# Altium footprint library TQFPC-44.PcbLib: 1 footprints
Each footprint in its own frame and in the unit in brackets; x right, y up, seen from the top. Pads: shape width x height; smd on the part's side, far side on the other; paste and mask are expansions set on the pad; w line width, h text height; cw(c..) or ccw(c..) is an arc to the next point about the centre after c.
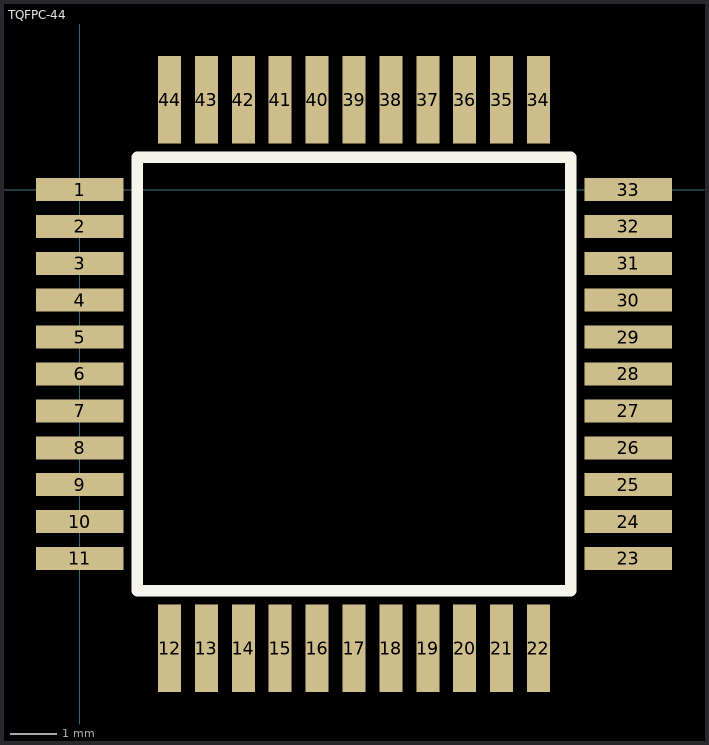
[diagram p0: the footprint, top view; thin cyan lines are the x and y axes]

## TQFPC-44 [mm]
pads (44):
  rect 1.9x0.5 smd: 1(0,0) 2(0,-0.8) 3(0,-1.6) 4(0,-2.4) 5(0,-3.2) 6(0,-4) 7(0,-4.8) 8(0,-5.6) 9(0,-6.4) 10(0,-7.2) 11(0,-8) 23(11.9,-8) 24(11.9,-7.2) 25(11.9,-6.4) 26(11.9,-5.6) 27(11.9,-4.8) 28(11.9,-4) 29(11.9,-3.2) 30(11.9,-2.4) 31(11.9,-1.6) 32(11.9,-0.8) 33(11.9,0)
  rect 0.5x1.9 smd: 12(1.95,-9.95) 13(2.75,-9.95) 14(3.55,-9.95) 15(4.35,-9.95) 16(5.15,-9.95) 17(5.95,-9.95) 18(6.75,-9.95) 19(7.55,-9.95) 20(8.35,-9.95) 21(9.15,-9.95) 22(9.95,-9.95) 34(9.95,1.95) 35(9.15,1.95) 36(8.35,1.95) 37(7.55,1.95) 38(6.75,1.95) 39(5.95,1.95) 40(5.15,1.95) 41(4.35,1.95) 42(3.55,1.95) 43(2.75,1.95) 44(1.95,1.95)
TopOverlay:
  lines w0.25: 1.25,-8.7 10.65,-8.7 10.65,0.7 1.25,0.7 1.25,-8.7
  text "." at -2.207,-0.092 h1.52
3D body: height 1.13, standoff 0.02, extent -0.05,-10.006 11.95,1.994